# Altium schematic symbol library Schlib.SchLib: 19 symbols
Pins are listed as number, name and electrical type; pins without a type are passive.

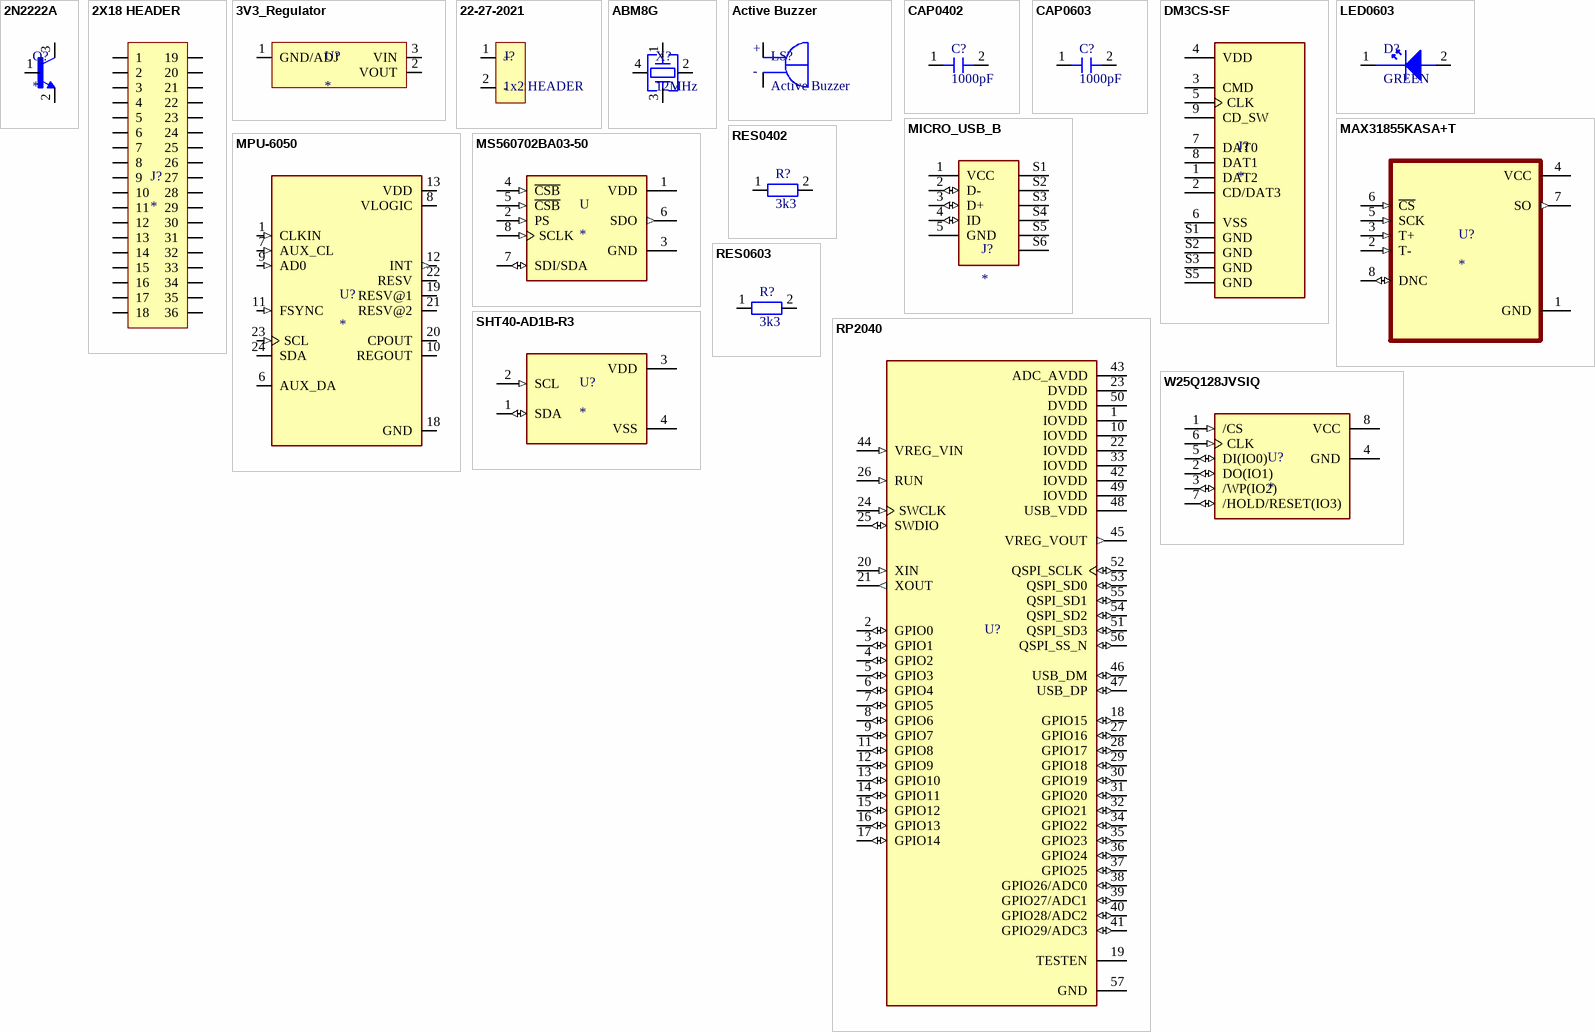
[diagram p0: symbols 2N2222A to W25Q128JVSIQ]

## 2N2222A
designator Q?
Bipolar (BJT) Transistor NPN 40 V 600 mA 250MHz 625 mW Through Hole TO-92; MF: Diotec Semiconductor; MP: 2N2222A; Package: TO-92-3 Diotec; Check_prices: https://www.snapeda.com/parts/2N2222A/Diotec/view-part/?ref=eda; Value: *; Purchase-URL: https://pricing.snapeda.com/search/part/2N2222A/?ref=eda; Availability: In Stock; SnapEDA_Link: https://www.snapeda.com/parts/2N2222A/Diotec/view-part/?ref=snap; Price: None
footprint SOT95P240X120-3N
pins: 1 B, 2 E, 3 C

## 2X18 HEADER
designator J?
2X18 2.54 MALE HEADER
footprint 2X18 HEADER (36 PIN 2 ROW 2.54 MALE HEADER)
pins: 1, 2, 3, 4, 5, 6, 7, 8, 9, 10, 11, 12, 13, 14, 15, 16, 17, 18, 19, 20, 21, 22, 23, 24, 25, 26, 27, 28, 29, 30, 31, 32, 33, 34, 35, 36

## 3V3_Regulator
designator U?
IC REG LINEAR 3.3V 1A SOT223
footprint 3V3_SOT223 (Regulador de voltaje lineal)
pins: 1 GND/ADJ, 2 VOUT, 3 VIN

## 22-27-2021
designator J?, comment 1x2 HEADER
CONN HEADER VERT 2POS 2.54MM; Manufacturer: Molex; Plating: 154ConductorMaterial; Number of Positions: 2; Current Rating: 4A; Voltage Rating: 500V; Gender: Male; Voltage Rating (DC): 250V; Supplier: Digi-Key; Supplier Part Number: WM4111-ND; Manufacturer Part Number: 22-27-2021; RoHS: Yes; Category: Headers and Wire Housings; Stock: 89345; Pricing: 1=0.3, 10=0.245, 100=0.18, 1000=0.14317, 5000=0.12272, 10000=0.11453 (USD); Contact Plating: Tin; Contact Material: Tin; Housing Color: Natural; Housing Material: Nylon; Material: Nylon; Weight: 0.00769oz; Number of Rows: 1; Packaging: Bulk; Termination: Through Hole; Series: 6410; Package Quantity: 24000; Contact Gender: Male; Contact Type: -; Pitch: 2.54mm; RoHS Compliant: Yes; Lead Free: Lead Free; Flammability Rating: UL94 V-0; Reach SVHC Compliant: 4187SVHC
footprint HEADER1X2
pins: 1 +, 2 -

## ABM8G
designator X?, comment 12MHz
CRYSTAL 12.0000MHZ 10PF SMD
footprint ABM8G (SMD XTAL 12MHz)
pins: 1, 2, 3, 4

## Active Buzzer
designator LS?
Active buzzer piezo; MP: KXG1203C-H; Value: *; Package: None; Availability: Unavailable; Price: None
footprint BUZZER
pins: N NEG, P POS
text: +; -

## CAP0402
designator C?, comment 1000pF
CAP CER 50V X7R 0402
footprint C0402
pins: 1, 2

## CAP0603
designator C?, comment 1000pF
CAP CER 50V X7R 0603
footprint C0603
pins: 1, 2

## DM3CS-SF
designator J?
CONN MICRO SD CARD HINGED TYPE; Manufacturer: Hirose; Manufacturer Part Number: DM3CS-SF; Description: Connector, Memory, Micro Sd, Hinged Rohs Compliant: Yes |Hirose(Hrs) DM3CS-SF; Contact Resistance: 100mR; Current Rating: 500mA; Voltage Rating (AC): 125V; Gender: Female; Connector Type: Connector; Number of Contacts: 8; Insulation Resistance: 1GR; Pitch: 1.1mm; Supplier: Digikey; Supplier Part Number: HR1972CT-ND; RoHS: Yes; Category: Memory Connectors; Stock: 24121; Pricing: 1=1.55, 10=1.353, 25=1.2952, 50=1.2666, 100=1.209, 250=1.09384, 500=1.00748 (USD); Mounting Technology: Surface Mount; Contact Material: Gold,Copper Alloy,Copper; Contact Plating: Gold; Housing Material: Polymer; Housing Color: 46Colour; Min Operating Temperature: -25°C; Max Operating Temperature: 85°C; Packaging: Tape and Reel; Number of Rows: 1; Max Current Rating: 500mA; Termination: Solder; Number of Positions: 8; Orientation: Right Angle; Series: DM3; Contact Voltage Rating (AC): 125V; Voltage Rating: 125V; Length: 14.1mm; Width: 13.8mm; Depth: 1.83mm; Contact Pitch: 1.1mm; Radiation Hardening: No; Flammability Rating: UL94 V-0; RoHS Compliant: Yes; Reach SVHC Compliant: Unknown; Lead Free: 5697LeadFree; ComponentLink1URL: https://datasheet.ciiva.com/683/e60900232-683360.pdf?src-supplier=Digikey; ComponentLink1Description: https://datasheet.ciiva.com/683/e60900232-683360.pdf?src-supplier=Digikey; ComponentLink2URL: https://datasheet.ciiva.com/7651/1465328-7651895.pdf?src-supplier=Element14; ComponentLink2Description: https://datasheet.ciiva.com/7651/1465328-7651895.pdf?src-supplier=Element14; ComponentLink3URL: https://datasheet.ciiva.com/4581/e60900232-38395-4581034.pdf?src-supplier=Mouser; ComponentLink3Description: https://datasheet.ciiva.com/4581/e60900232-38395-4581034.pdf?src-supplier=Mouser; ComponentLink4URL: https://datasheet.ciiva.com/3122/e60900232-3122536.pdf?src-supplier=Avnet; ComponentLink4Description: https://datasheet.ciiva.com/3122/e60900232-3122536.pdf?src-supplier=Avnet; ComponentLink5URL: https://datasheet.ciiva.com/16434/e60900232-16434058.pdf?src-supplier=Future+Electronics; ComponentLink5Description: https://datasheet.ciiva.com/16434/e60900232-16434058.pdf?src-supplier=Future+Electronics; ComponentLink6URL: https://datasheet.ciiva.com/683/e60900232-683361.pdf?src-supplier=Digikey; ComponentLink6Description: https://datasheet.ciiva.com/683/e60900232-683361.pdf?src-supplier=Digikey; ComponentLink7URL: https://datasheet.ciiva.com/683/e60900232-683359.pdf?src-supplier=Digikey; ComponentLink7Description: https://datasheet.ciiva.com/683/e60900232-683359.pdf?src-supplier=Digikey
footprint DM3CS-SF (CONN MICRO SD CARD HINGED TYPE)
pins: 1 DAT2, 2 CD/DAT3, 3 CMD, 4 VDD, 5 CLK, 6 VSS, 7 DAT0, 8 DAT1, 9 CD_SW, S1 GND, S2 GND, S3 GND, S5 GND

## LED0603
designator D?, comment GREEN
LED GREEN CLEAR CHIP 0603 SMD; Manufacturer: Visual Communications; Manufacturer Part Number: LSM0603453V; Lens Color: Colorless; Lens Style: Flat; Luminous Intensity: 63mcd; Forward Voltage: 2V; Test Current: 20mA; Viewing Angle: 120°; Dominant Wavelength: 572nm; Power Dissipation: 60mW; Reverse Voltage: 5V; Wavelength: 576nm; Lens Size: 0.8mm; Supplier: Digi-Key; Supplier Part Number: LSM0603453VCT-ND; RoHS: Yes; Category: LEDs; Stock: 93850; Pricing: 1=0.46, 10=0.283, 100=0.1626, 1000=0.12726, 2000=0.11666 (USD); Mounting Technology: Surface Mount; Case/Package: 0603; Color: Green; Case Code (Imperial): 0603; Case Code (Metric): 1608; Min Operating Temperature: -40°C; Max Operating Temperature: 85°C; Packaging: Cut Tape; Lens Transparency: Clear; Series: LSM0603; Forward Current: 20mA; Length: 1.6mm; Width: 0.8mm; Height: 0.65mm; RoHS Compliant: Yes; ComponentLink1URL: http://www.farnell.com/datasheets/2699708.pdf?src-supplier=Farnell; ComponentLink1Description: http://www.farnell.com/datasheets/2699708.pdf?src-supplier=Farnell; ComponentLink2URL: http://www.farnell.com/datasheets/2699708.pdf?src-supplier=Newark; ComponentLink2Description: http://www.farnell.com/datasheets/2699708.pdf?src-supplier=Newark; ComponentLink3URL: https://vcclite.com/wp-content/uploads/wpallimport/files/files/LSM0603453V.pdf?src-supplier=Digi-Key; ComponentLink3Description: https://vcclite.com/wp-content/uploads/wpallimport/files/files/LSM0603453V.pdf?src-supplier=Digi-Key
footprint LED0603_GREEN
pins: 1, 2

## MAX31855KASA+T
designator U?
IC CONV THERMOCOUPLE-DGTL 8SOIC; MF: Maxim Integrated; MP: MAX31855KASA+T; Price: None; SnapEDA_Link: https://www.snapeda.com/parts/MAX31855KASA+T/Maxim%20Integrated/view-part/424065/?ref=snap; Package: SOIC-8 Maxim; Availability: Unavailable; Value: *
footprint MAX31855K (IC CONV THERMOCOUPLE-DGTL SOIC)
pins: 1 GND (power), 2 T- (in), 3 T+ (in), 4 VCC (power), 5 SCK (in), 6 ~{CS} (in), 7 SO (out), 8 DNC (io)

## MICRO_USB_B
designator J?
CONN RCPT USB2.0 MICRO B SMD R/A
footprint MICRO_USB_B
pins: 1 VCC (power), 2 D- (io), 3 D+ (io), 4 ID (io), 5 GND (power), S1 SHIELD, S2 SHIELD, S3 SHIELD, S4 SHIELD, S5 SHIELD, S6 SHIELD

## MPU-6050
designator U?
MPU-6050 series Accelerometer, Gyroscope, 3 Axis Sensor Evaluation Board; MF: TDK InvenSense; Value: *; SnapEDA_Link: https://www.snapeda.com/parts/MPU-6050/TDK+InvenSense/view-part/?ref=snap; Purchase-URL: https://pricing.snapeda.com/search/part/MPU-6050/?ref=eda; Availability: In Stock; Price: None; Package: QFN-24 InvenSense; Check_prices: https://www.snapeda.com/parts/MPU-6050/TDK+InvenSense/view-part/?ref=eda; MP: MPU-6050
footprint MPU6050 (IMU ACCEL/GYRO 3-AXIS I2C 24QFN)
pins: 1 CLKIN (in), 6 AUX_DA (io), 7 AUX_CL (in), 8 VLOGIC (power), 9 AD0 (in), 10 REGOUT, 11 FSYNC (in), 12 INT (out), 13 VDD (power), 18 GND (power), 19 RESV@1, 20 CPOUT, 21 RESV@2, 22 RESV, 23 SCL (in), 24 SDA (io)

## MS560702BA03-50
designator U
MS5607-02BA03 Series 3 V 1 to 120 kPa Absolute Barometric Pressure Sensor; MP: MS560702BA03-50; MF: TE Connectivity; EU_RoHS_Compliance: Compliant; Package: SMD-8 TE Connectivity; TE_purchase_URL: https://www.te.com/usa-en/product-MS560702BA03-50.html?te_bu=Cor&te_type=disp&te_campaign=seda_glo_cor-seda-global-disp-prtnr-fy19-seda-model-bom-cta_sma-317_1&elqCampaignId=32493; SnapEDA_Link: https://www.snapeda.com/parts/MS560702BA03-50/TE%20Connectivity%20ALCOSWITCH%20Switches/view-part/480584/?ref=snap; Availability: Unavailable; Price: None; Value: *
footprint SON125P300X500X100-8N
pins: 1 VDD (power), 2 PS (in), 3 GND (power), 4 ~{CSB} (in), 5 ~{CSB} (in), 6 SDO (out), 7 SDI/SDA (io), 8 SCLK (in)

## RES0402
designator R?, comment 3k3
RES 5% 1/16W 0402
footprint R0402
pins: 1, 2

## RES0603
designator R?, comment 3k3
RES 5% 1/16W 0603
footprint R0603
pins: 1, 2

## RP2040
designator U?
IC MCU 32BIT EXT MEM 56QFN; MF: Raspberry Pi; MP: SC0914(13); SnapEDA_Link: https://www.snapeda.com/parts/SC0914(13)/Raspberry+Pi/view-part/?ref=snap; Package: VFQFN-56 Raspberry Pi; Value: *; Check_prices: https://www.snapeda.com/parts/SC0914(13)/Raspberry+Pi/view-part/?ref=eda
footprint RP2040 (IC MCU 32BIT EXT MEM 56QFN)
pins: 1 IOVDD (power), 2 GPIO0 (io), 3 GPIO1 (io), 4 GPIO2 (io), 5 GPIO3 (io), 6 GPIO4 (io), 7 GPIO5 (io), 8 GPIO6 (io), 9 GPIO7 (io), 10 IOVDD (power), 11 GPIO8 (io), 12 GPIO9 (io), 13 GPIO10 (io), 14 GPIO11 (io), 15 GPIO12 (io), 16 GPIO13 (io), 17 GPIO14 (io), 18 GPIO15 (io), 19 TESTEN, 20 XIN (in), 21 XOUT (out), 22 IOVDD (power), 23 DVDD (power), 24 SWCLK (in), 25 SWDIO (io), 26 RUN (in), 27 GPIO16 (io), 28 GPIO17 (io), 29 GPIO18 (io), 30 GPIO19 (io), 31 GPIO20 (io), 32 GPIO21 (io), 33 IOVDD (power), 34 GPIO22 (io), 35 GPIO23 (io), 36 GPIO24 (io), 37 GPIO25 (io), 38 GPIO26/ADC0 (io), 39 GPIO27/ADC1 (io), 40 GPIO28/ADC2 (io), 41 GPIO29/ADC3 (io), 42 IOVDD (power), 43 ADC_AVDD (power), 44 VREG_VIN (in), 45 VREG_VOUT (out), 46 USB_DM (io), 47 USB_DP (io), 48 USB_VDD (power), 49 IOVDD (power), 50 DVDD (power), 51 QSPI_SD3 (io), 52 QSPI_SCLK (io), 53 QSPI_SD0 (io), 54 QSPI_SD2 (io), 55 QSPI_SD1 (io), 56 QSPI_SS_N (io), 57 GND (power)

## SHT40-AD1B-R3
designator U?
Digital Relative Humidity Temperature Sensor, Â±1.8 / max 3.5 %RH, Â±0.2 Â°C, Ultra-Low-Power, with filtermembrane; MP: SHT40-AD1B-R3; MF: Sensirion; SnapEDA_Link: https://www.snapeda.com/parts/SHT40-AD1B-R3/Sensirion/view-part/?ref=snap; Price: None; Purchase-URL: https://pricing.snapeda.com/search/part/SHT40-AD1B-R3/?ref=eda; Check_prices: https://www.snapeda.com/parts/SHT40-AD1B-R3/Sensirion/view-part/?ref=eda; Availability: In Stock; Value: *; Package: Package
footprint SHT4X
pins: 1 SDA (io), 2 SCL (in), 3 VDD (power), 4 VSS (power)

## W25Q128JVSIQ
designator U?
IC FLASH 128MBIT SPI/QUAD 8SOIC; Manufacturer: Winbond; Manufacturer Part Number: W25Q128JVSIQ; Memory Format: Non-Volatile,FLASH; Frequency: 133MHz; Memory Size: 128Mb; Supplier: Digikey; Supplier Part Number: W25Q128JVSIQ-ND; RoHS: Yes; Category: Flash; Stock: 93739; Pricing: 1=1.73, 10=1.578, 25=1.5352, 90=1.36544, 270=1.36144, 540=1.34091, 1080=1.28398, 5040=1.19543 (USD); Mounting Technology: Surface Mount; Case/Package: SOIC; Min Operating Temperature: -40°C; Max Operating Temperature: 85°C; Packaging: Tray; Series: SpiFlash®; RoHS Compliant: Yes; ComponentLink1URL: http://www.winbond.com/resource-files/w25q128jv%20revf%2003272018%20plus.pdf?src-supplier=Digikey; ComponentLink1Description: http://www.winbond.com/resource-files/w25q128jv%20revf%2003272018%20plus.pdf?src-supplier=Digikey
footprint W25Q128JVSIQ (IC FLASH 128MBIT SPI/QUAD 8SOIC)
pins: 1 /CS (in), 2 DO(IO1) (io), 3 /WP(IO2) (io), 4 GND (power), 5 DI(IO0) (io), 6 CLK (in), 7 /HOLD/RESET(IO3) (io), 8 VCC (power)